# Altium schematic symbol library MIC5332.Schlib: 1 symbol
Pins are listed as number, name and electrical type; pins without a type are passive.

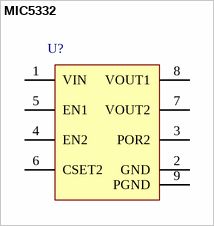
[diagram p0: symbol MIC5332]

## MIC5332
designator U?  (value not drawn)
Dual 300mA LDO
pins: 1 VIN, 2 GND, 3 POR2, 4 EN2, 5 EN1, 6 CSET2, 7 VOUT2, 8 VOUT1, 9 PGND